# Altium schematic symbol library CON_DT12_PIN.Schlib: 1 symbol
Pins are listed as number, name and electrical type; pins without a type are passive.

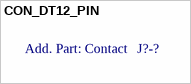
[diagram p0: symbol CON_DT12_PIN]

## CON_DT12_PIN
designator J?-?, comment Contact  (mechanical)
Part of a DT04-12P connector; 4 Manufacturer: Deutsch; 5 Manufacturer P/N: 0460-229-16141; 6 P/N: 222-1744; 2 Description: Extended pin Male .54x.248x.025; 1 Type: Contact; 3 Footprint: *; ComponentLink1Description: Manufacturer Link; ComponentLink1URL: http://www.deutschipd.com/; ComponentLink2Description: Datasheet; ComponentLink3Description: Supplier Link
text: Add. Part: